# Altium footprint library myPcbLib1.PcbLib: 151 footprints (part 10 of 10)
Each footprint in its own frame and in the unit in brackets; x right, y up, seen from the top. Pads: shape width x height; smd on the part's side, far side on the other; paste and mask are expansions set on the pad; w line width, h text height; cw(c..) or ccw(c..) is an arc to the next point about the centre after c.
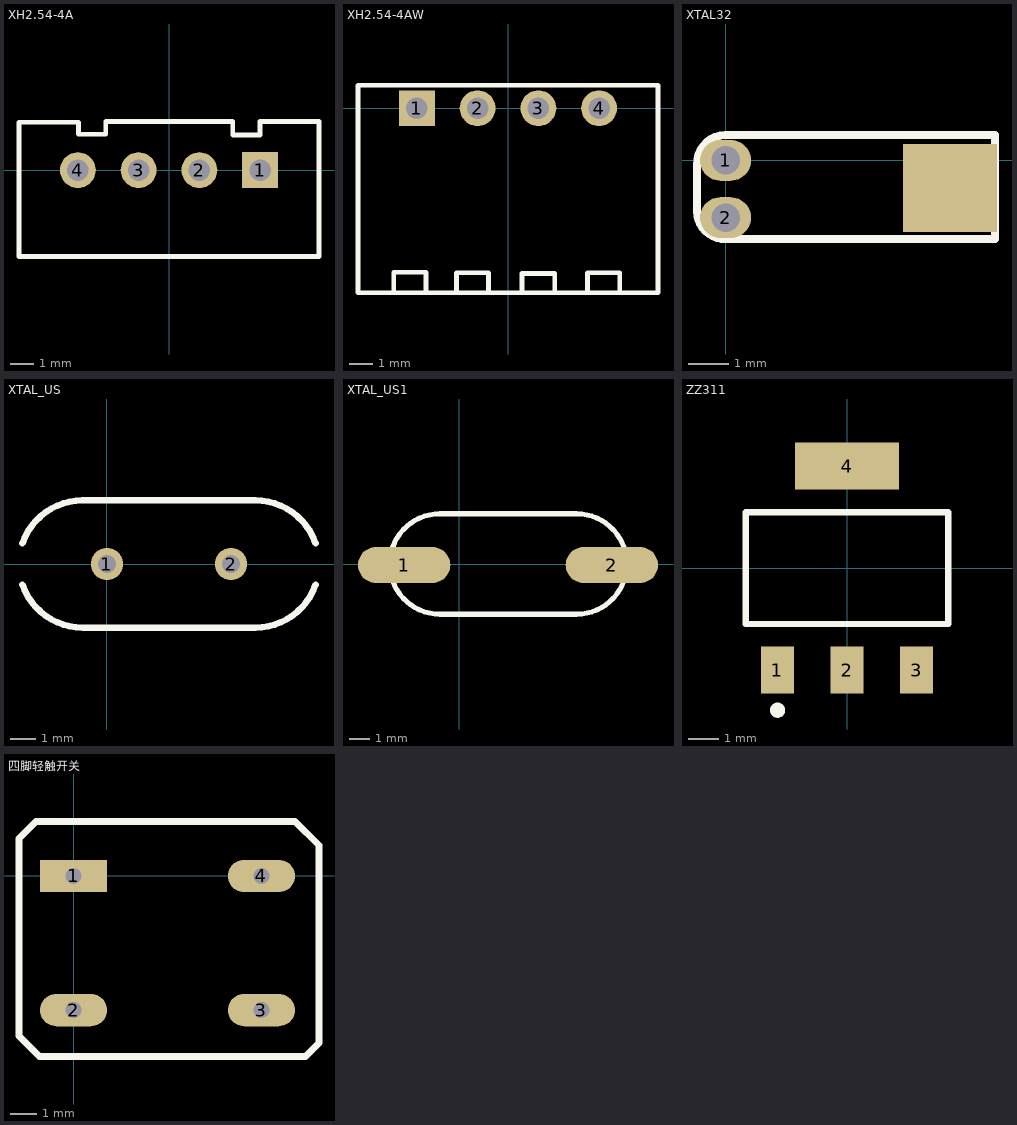
[diagram p9: the footprints below, top view; thin cyan lines are the x and y axes]

## XH2.54-4A [mm]
pads (4):
  rect 1.5x1.5 hole 0.9: 1(3.81,0)
  round 1.5 hole 0.9: 2(1.27,0) 3(-1.27,0) 4(-3.81,0)
Top Overlay:
  lines w0.2: -6.274,-3.607 -6.274,2.007 -3.785,2.007 -3.785,1.499 -2.642,1.499 -2.642,2.032 2.667,2.032 2.667,1.473 3.81,1.473 3.81,2.032 6.274,2.032 6.274,-3.607 -6.274,-3.607

## XH2.54-4AW [mm]
pads (4):
  rect 1.5x1.5 hole 0.9: 1(-3.81,0)
  round 1.5 hole 0.9: 2(-1.27,0) 3(1.27,0) 4(3.81,0)
Top Overlay:
  lines w0.2: -4.775,-7.62 -4.775,-6.858 -3.429,-6.858 -3.429,-7.645 ; -2.159,-7.645 -2.159,-6.883 -0.813,-6.883 -0.813,-7.671 ; 0.584,-7.671 0.584,-6.909 1.956,-6.909 1.956,-7.696 ; 3.327,-7.645 3.327,-6.883 4.674,-6.883 4.674,-7.671 ; -6.274,-7.722 -6.274,0.965 6.274,0.965 6.274,-7.722 -6.274,-7.722

## XTAL32 [mil]
pads (3):
  oval 50x40 hole 28: 1(0,0) 2(0,-56)
  rect 92.13x86 smd: ""(220,-27)
Top Overlay:
  lines w8: -28,-50 ccw(c-0.5,-49.5) 0,-77 264,-77 264,25 0,25 ccw(c0.5,-3.5) -28,-4 -28,-50

## XTAL_US [mil]
pads (2):
  round 50 hole 28: 1(0,0) 2(192.13,0)
Top Overlay:
  lines w10: -130.92,-31.85 ccw(c-37.79,0) -37.79,-98.42 ; -130.92,31.85 cw(c-37.79,0) -37.79,98.43 ; -38,98.42 229.92,98.43 cw(c229.92,0) 323.05,31.85 ; -37.8,-98.43 229.92,-98.42 ccw(c229.92,0) 323.05,-31.85

## XTAL_US1 [mm]
pads (2):
  oval 4.6x1.8 smd: 1(-2.743,-0.051) 2(7.595,-0.051)
Top Overlay:
  lines w0.254: -3.325,-0.809 ccw(c-0.96,0) -0.96,-2.5 ; -3.325,0.809 cw(c-0.96,0) -0.96,2.5 ; -0.965,2.5 5.84,2.5 cw(c5.84,0) 8.205,0.809 ; -0.96,-2.5 5.84,-2.5 ccw(c5.84,0) 8.205,-0.809

## ZZ311 [mm] "SOT-223/SC-73; 4 Leads; Body 6.7 x 7.3 mm, inc. leads (LxW max)"
pads (4):
  rect 1.1x1.55 smd: 1(-2.3,-3.375) 2(0,-3.375) 3(2.3,-3.375)
  rect 3.45x1.55 smd: 4(0,3.375)
Top Overlay:
  circle w0.25: c-2.3,-4.7 r0.125
  lines w0.2: -3.35,-1.85 -3.35,1.85 3.35,1.85 3.35,-1.85 -3.35,-1.85

## 四脚轻触开关 [mm]
pads (4):
  rect 2.5x1.2 hole 0.6: 1(0,0)
  oval 2.5x1.2 hole 0.6: 2(0,-5) 3(7,-5) 4(7,0)
Top Overlay:
  lines w0.254: -2.032,-5.969 -1.27,-6.731 8.636,-6.731 9.144,-6.223 9.144,1.143 8.255,2.032 7.874,2.032 -1.143,2.032 -1.397,2.032 -2.032,1.397 -2.032,-5.969